# EAGLE library part PCA9534 (library micro-philips)
8-bit I2C-bus and SMBus low power I/O port with interrupt Source: www.nxp.com .. PCA9534_3.pdf
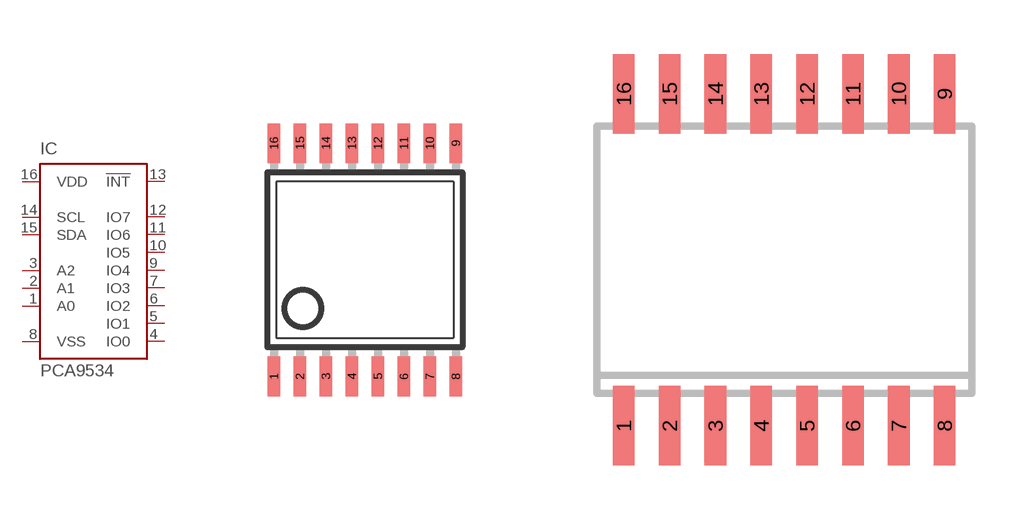
[diagram p26: symbol with the pads of TSSOP16; footprints TSSOP16, SO16W]

Designator prefix IC

## PCA9534PW (MPN: PCA9534PW; OC_FARNELL: 1408285; OC_NEWARK: 18M7516)  [TSSOP16]
1  A0  in
2  A1  in
3  A2  in
4  IO0
5  IO1
6  IO2
7  IO3
8  VSS  pwr
9  IO4
10  IO5
11  IO6
12  IO7
13  !INT  oc
14  SCL  in
15  SDA
16  VDD  pwr

## PCA9534D (MPN: PCA9534DB; OC_FARNELL: 1408284; OC_NEWARK: 18M7513)  [SO16W]
Pads as for TSSOP16

## PCA9534BS (MPN: PCA9534BS,118; OC_FARNELL: unknown; OC_NEWARK: 70R6525)  [HVQFN16_4X4]
1  A2  in
2  IO0
3  IO1
4  IO2
5  IO3
6  VSS  pwr
7  IO4
8  IO5
9  IO6
10  IO7
11  !INT  oc
12  SCL  in
13  SDA
14  VDD  pwr
15  A0  in
16  A1  in

## PCA9534BS3 (MPN: PCA9534BS3,118; OC_FARNELL: unknown; OC_NEWARK: 70R6526)  [HVQFN16_3X3]
Pads as for HVQFN16_4X4

## Footprint TSSOP16 (pad centres in mm)
TSSOP16: plastic thin shrink small outline package; 16 leads; body width 4.4 mm SOT403-1 Source: PCA9534_3.pdf
smd 0.305 x 0.991: 1 -2.275,-2.918; 2 -1.625,-2.918; 3 -0.975,-2.918; 4 -0.325,-2.918; 5 0.325,-2.918; 6 0.975,-2.918; 7 1.625,-2.918; 8 2.275,-2.918; 9 2.275,2.918; 10 1.625,2.918; 11 0.975,2.918; 12 0.325,2.918; 13 -0.325,2.918; 14 -0.975,2.918; 15 -1.625,2.918; 16 -2.275,2.918

## Footprint SO16W (pad centres in mm)
Small Outline Package 7.6 x 10.6 mm
smd 0.6 x 2.2: 1 -4.445,-4.6; 2 -3.175,-4.6; 3 -1.905,-4.6; 4 -0.635,-4.6; 5 0.635,-4.6; 6 1.905,-4.6; 7 3.175,-4.6; 8 4.445,-4.6; 9 4.445,4.6; 10 3.175,4.6; 11 1.905,4.6; 12 0.635,4.6; 13 -0.635,4.6; 14 -1.905,4.6; 15 -3.175,4.6; 16 -4.445,4.6

## Footprint HVQFN16_4X4 (pad centres in mm)
HVQFN16: plastic thermal enhanced very thin quad flat package; no leads; 16 terminals; body 4 x 4 x 0.85 mm SOT629-1 Source: PCA9534_3.pdf
smd 0.5 x 0.3: 1 -1.8,0.975; 2 -1.8,0.325; 3 -1.8,-0.325; 4 -1.8,-0.975; 9 1.8,-0.975; 10 1.8,-0.325; 11 1.8,0.325; 12 1.8,0.975
smd 0.3 x 0.5: 5 -0.975,-1.8; 6 -0.325,-1.8; 7 0.325,-1.8; 8 0.975,-1.8; 13 0.975,1.8; 14 0.325,1.8; 15 -0.325,1.8; 16 -0.975,1.8
smd 2.25 x 2.25: TH 0,0

## Footprint HVQFN16_3X3 (pad centres in mm)
HVQFN16: plastic thermal enhanced very thin quad flat package; no leads; 16 terminals; body 3 x 3 x 0.85 mm SOT758-1 Source: PCA9534_3.pdf
smd 0.5 x 0.3: 1 -1.25,0.75; 2 -1.25,0.25; 3 -1.25,-0.25; 4 -1.25,-0.75; 9 1.25,-0.75; 10 1.25,-0.25; 11 1.25,0.25; 12 1.25,0.75
smd 0.3 x 0.5: 5 -0.75,-1.25; 6 -0.25,-1.25; 7 0.25,-1.25; 8 0.75,-1.25; 13 0.75,1.25; 14 0.25,1.25; 15 -0.25,1.25; 16 -0.75,1.25
smd 1.75 x 1.75: TH 0,0